# Altium footprint library Battery.PcbLib: 1 footprints
Each footprint in its own frame and in the unit in brackets; x right, y up, seen from the top. Pads: shape width x height; smd on the part's side, far side on the other; paste and mask are expansions set on the pad; w line width, h text height; cw(c..) or ccw(c..) is an arc to the next point about the centre after c.
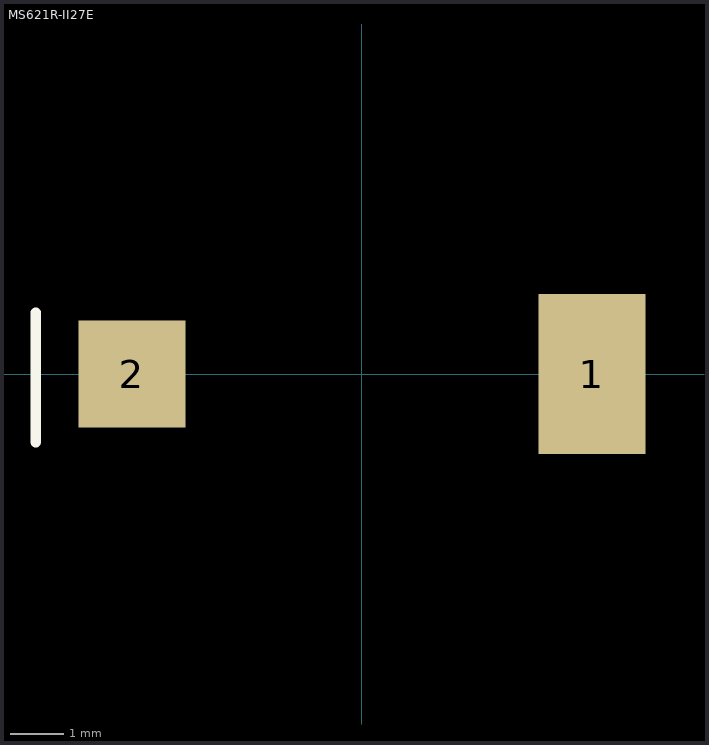
[diagram p0: the footprint, top view; thin cyan lines are the x and y axes]

## MS621R-II27E [mm]
pads (2):
  rect 2x3 smd paste-1.016 mask+0.102: 1(4.3,0)
  rect 2x2 smd paste-1.016 mask+0.102: 2(-4.3,0)
Top Overlay:
  lines w0.2: -6.096,-1.27 -6.096,1.143
3D body "MS621R-II27E.stp": height 2.57, standoff 0.04, extent -4.5,-3.4 4.7,3.4